# Altium footprint library TE_CONMHF1-SMD-T.PcbLib: 1 footprints
Each footprint in its own frame and in the unit in brackets; x right, y up, seen from the top. Pads: shape width x height; smd on the part's side, far side on the other; paste and mask are expansions set on the pad; w line width, h text height; cw(c..) or ccw(c..) is an arc to the next point about the centre after c.
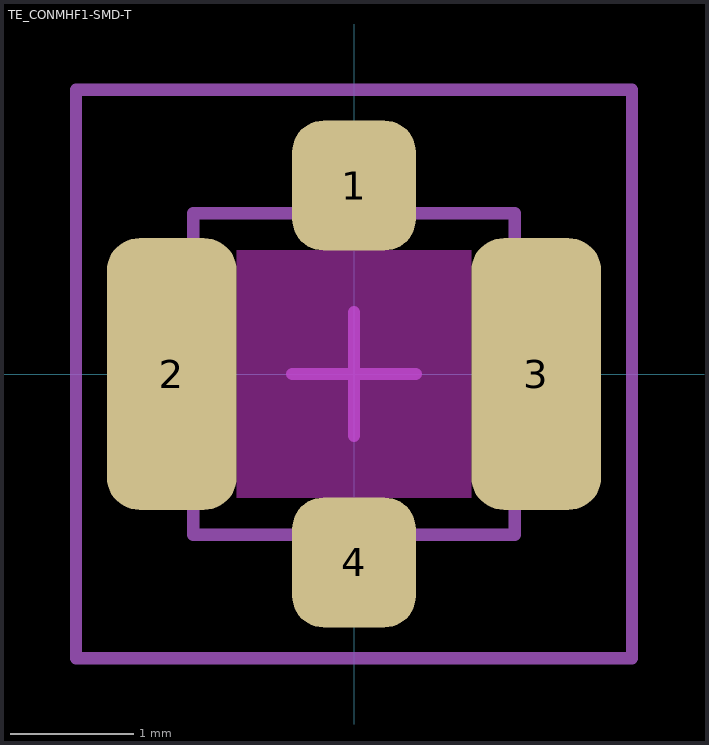
[diagram p0: the footprint, top view; thin cyan lines are the x and y axes]

## TE_CONMHF1-SMD-T [mm]
height 1.31
pads (4):
  rrect50% 1x1.05 smd: 1(0,1.525) 4(0,-1.525)
  rrect50% 1.05x2.2 smd: 2(-1.475,0) 3(1.475,0)
Keep-Out Layer:
  region: 0.95,-1 -0.95,-1 -0.95,1 0.95,1
  region: 0.95,-1 -0.95,-1 -0.95,1 0.95,1
Top Assembly:
  lines w0.1: -1.3,-1.3 -1.3,1.3 1.3,1.3 1.3,-1.3 -1.3,-1.3
Top Designator:
  text ".Designator" at -3.647,-0.357 h1
Top Courtyard:
  lines w0.1: -2.25,-2.3 -2.25,2.3 2.25,2.3 2.25,-2.3 -2.25,-2.3
Top Component Center (Mech17):
  lines w0.1: -0.5,0 0.5,0 ; 0,-0.5 0,0.5
3D body "step_temp.STEP": height 1.31, standoff 0, extent -1.5,-1.55 1.5,1.55